# Altium footprint library Connectors-WR-PHD_Pin Header.PcbLib: 232 footprints (part 3 of 15)
Each footprint in its own frame and in the unit in brackets; x right, y up, seen from the top. Pads: shape width x height; smd on the part's side, far side on the other; paste and mask are expansions set on the pad; w line width, h text height; cw(c..) or ccw(c..) is an arc to the next point about the centre after c.
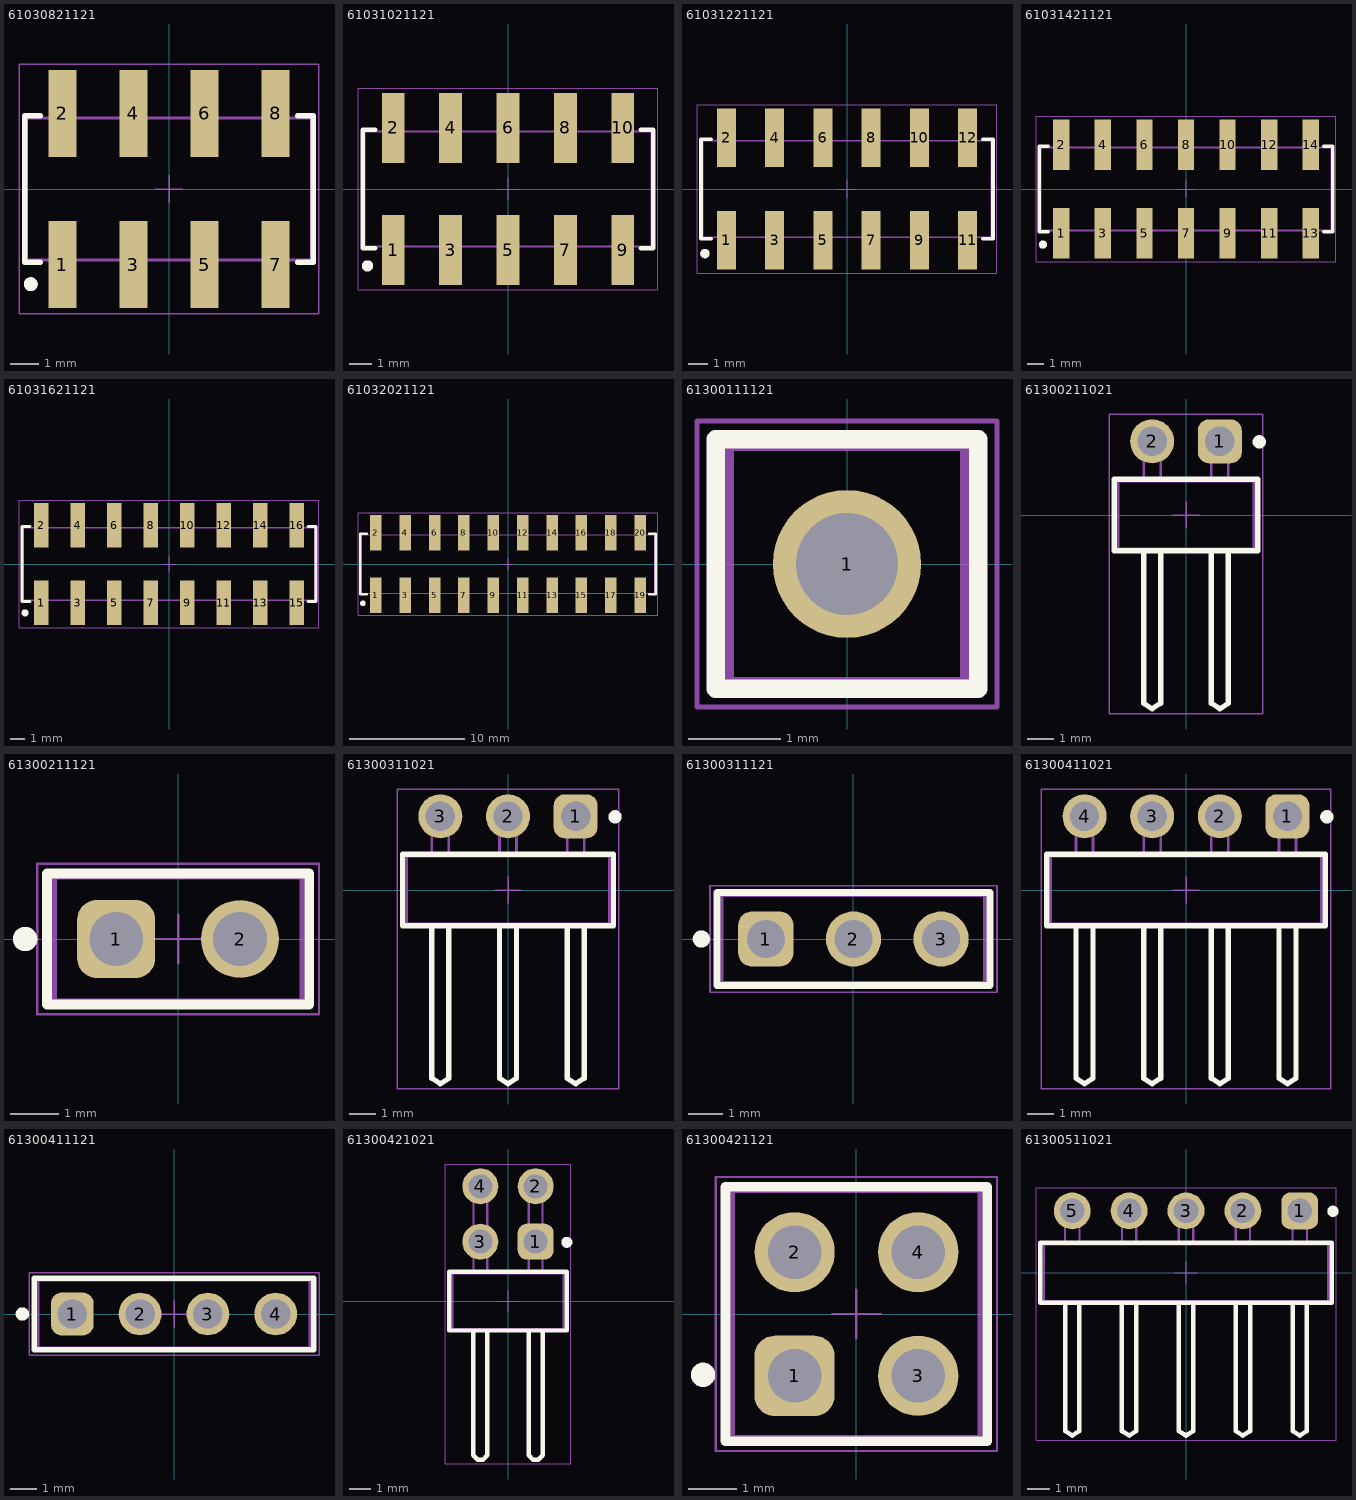
[diagram p2: the footprints below, top view; thin cyan lines are the x and y axes]

## 61030821121 [mm] "Pin Header, pitch 2.54 mm, SMD, Vertical, dual row, 8p"
height 9.6
pads (8):
  rect 1x3.1 smd: 1(-3.81,-2.7) 2(-3.81,2.7) 3(-1.27,-2.7) 4(-1.27,2.7) 5(1.27,-2.7) 6(1.27,2.7) 7(3.81,-2.7) 8(3.81,2.7)
Top Overlay:
  circle w0.25: c-4.94,-3.4 r0.125
  lines w0.2: -4.605,-2.615 -5.155,-2.615 -5.155,2.615 -4.605,2.615 ; 4.605,-2.615 5.155,-2.615 5.155,2.615 4.605,2.615
Top Designator:
  text ".Designator" at -7.498,-0.5 h1.5
Top Component Outline:
  lines w0.1: -4.13,-2.54 -4.13,-3.75 -3.49,-3.75 -3.49,-2.54 ; -4.13,2.54 -4.13,3.75 -3.49,3.75 -3.49,2.54 ; -1.59,-2.54 -1.59,-3.75 -0.95,-3.75 -0.95,-2.54 ; -1.59,2.54 -1.59,3.75 -0.95,3.75 -0.95,2.54 ; 0.95,-2.54 0.95,-3.75 1.59,-3.75 1.59,-2.54 ; 0.95,2.54 0.95,3.75 1.59,3.75 1.59,2.54 ; 3.49,-2.54 3.49,-3.75 4.13,-3.75 4.13,-2.54 ; 3.49,2.54 3.49,3.75 4.13,3.75 4.13,2.54 ; -5.08,-2.54 5.08,-2.54 5.08,2.54 -5.08,2.54 -5.08,-2.54
Top Courtyard:
  lines w0.05: -5.355,-4.45 -5.355,4.45 5.355,4.45 5.355,-4.45 -5.355,-4.45
Top Component Center:
  lines w0.05: -0.5,0 0.5,0 ; 0,-0.5 0,0.5
3D body "61030821121.stp": height 9.62, standoff 0.02, extent -5.08,-3.75 5.08,3.75

## 61031021121 [mm] "Pin Header, pitch 2.54 mm, SMD, Vertical, dual row, 10p"
height 9.6
pads (10):
  rect 1x3.1 smd: 1(-5.08,-2.7) 2(-5.08,2.7) 3(-2.54,-2.7) 4(-2.54,2.7) 5(0,-2.7) 6(0,2.7) 7(2.54,-2.7) 8(2.54,2.7) 9(5.08,-2.7) 10(5.08,2.7)
Top Overlay:
  circle w0.25: c-6.21,-3.4 r0.125
  lines w0.2: -5.875,-2.615 -6.425,-2.615 -6.425,2.615 -5.875,2.615 ; 5.875,-2.615 6.425,-2.615 6.425,2.615 5.875,2.615
Top Designator:
  text ".Designator" at -7.498,-0.5 h1.5
Top Component Outline:
  lines w0.1: -5.4,-2.54 -5.4,-3.75 -4.76,-3.75 -4.76,-2.54 ; -5.4,2.54 -5.4,3.75 -4.76,3.75 -4.76,2.54 ; -2.86,-2.54 -2.86,-3.75 -2.22,-3.75 -2.22,-2.54 ; -2.86,2.54 -2.86,3.75 -2.22,3.75 -2.22,2.54 ; -0.32,-2.54 -0.32,-3.75 0.32,-3.75 0.32,-2.54 ; -0.32,2.54 -0.32,3.75 0.32,3.75 0.32,2.54 ; 2.22,-2.54 2.22,-3.75 2.86,-3.75 2.86,-2.54 ; 2.22,2.54 2.22,3.75 2.86,3.75 2.86,2.54 ; 4.76,-2.54 4.76,-3.75 5.4,-3.75 5.4,-2.54 ; 4.76,2.54 4.76,3.75 5.4,3.75 5.4,2.54 ; -6.35,-2.54 -6.35,2.54 6.35,2.54 6.35,-2.54 -6.35,-2.54
Top Courtyard:
  lines w0.05: -6.625,-4.45 -6.625,4.45 6.625,4.45 6.625,-4.45 -6.625,-4.45
Top Component Center:
  lines w0.05: -0.5,0 0.5,0 ; 0,-0.5 0,0.5
3D body "61031021121.stp": height 9.62, standoff 0.02, extent -6.35,-3.75 6.35,3.75

## 61031221121 [mm] "Pin Header, pitch 2.54 mm, SMD, Vertical, dual row, 12p"
height 9.6
pads (12):
  rect 1x3.1 smd: 1(-6.35,-2.7) 2(-6.35,2.7) 3(-3.81,-2.7) 4(-3.81,2.7) 5(-1.27,-2.7) 6(-1.27,2.7) 7(1.27,-2.7) 8(1.27,2.7) 9(3.81,-2.7) 10(3.81,2.7) 11(6.35,-2.7) 12(6.35,2.7)
Top Overlay:
  circle w0.25: c-7.48,-3.4 r0.125
  lines w0.2: -7.145,-2.615 -7.695,-2.615 -7.695,2.615 -7.145,2.615 ; 7.145,-2.615 7.695,-2.615 7.695,2.615 7.145,2.615
Top Designator:
  text ".Designator" at -7.498,-0.5 h1.5
Top Component Outline:
  lines w0.1: -6.67,-2.54 -6.67,-3.75 -6.03,-3.75 -6.03,-2.54 ; -6.67,2.54 -6.67,3.75 -6.03,3.75 -6.03,2.54 ; -4.13,-2.54 -4.13,-3.75 -3.49,-3.75 -3.49,-2.54 ; -4.13,2.54 -4.13,3.75 -3.49,3.75 -3.49,2.54 ; -1.59,-2.54 -1.59,-3.75 -0.95,-3.75 -0.95,-2.54 ; -1.59,2.54 -1.59,3.75 -0.95,3.75 -0.95,2.54 ; 0.95,-2.54 0.95,-3.75 1.59,-3.75 1.59,-2.54 ; 0.95,2.54 0.95,3.75 1.59,3.75 1.59,2.54 ; 3.49,-2.54 3.49,-3.75 4.13,-3.75 4.13,-2.54 ; 3.49,2.54 3.49,3.75 4.13,3.75 4.13,2.54 ; 6.03,-2.54 6.03,-3.75 6.67,-3.75 6.67,-2.54 ; 6.03,2.54 6.03,3.75 6.67,3.75 6.67,2.54 ; -7.62,-2.54 7.62,-2.54 7.62,2.54 -7.62,2.54 -7.62,-2.54
Top Courtyard:
  lines w0.05: -7.895,-4.45 -7.895,4.45 7.895,4.45 7.895,-4.45 -7.895,-4.45
Top Component Center:
  lines w0.05: -0.5,0 0.5,0 ; 0,-0.5 0,0.5
3D body "61031221121.stp": height 9.62, standoff 0.02, extent -7.62,-3.75 7.62,3.75

## 61031421121 [mm] "Pin Header, pitch 2.54 mm, SMD, Vertical, dual row, 14p"
height 9.6
pads (14):
  rect 1x3.1 smd: 1(-7.62,-2.7) 2(-7.62,2.7) 3(-5.08,-2.7) 4(-5.08,2.7) 5(-2.54,-2.7) 6(-2.54,2.7) 7(0,-2.7) 8(0,2.7) 9(2.54,-2.7) 10(2.54,2.7) 11(5.08,-2.7) 12(5.08,2.7) 13(7.62,-2.7) 14(7.62,2.7)
Top Overlay:
  circle w0.25: c-8.75,-3.4 r0.125
  lines w0.2: -8.415,-2.615 -8.965,-2.615 -8.965,2.615 -8.415,2.615 ; 8.415,-2.615 8.965,-2.615 8.965,2.615 8.415,2.615
Top Designator:
  text ".Designator" at -7.498,-0.5 h1.5
Top Component Outline:
  lines w0.1: -7.94,-2.54 -7.94,-3.75 -7.3,-3.75 -7.3,-2.54 ; -7.94,2.54 -7.94,3.75 -7.3,3.75 -7.3,2.54 ; -5.4,-2.54 -5.4,-3.75 -4.76,-3.75 -4.76,-2.54 ; -5.4,2.54 -5.4,3.75 -4.76,3.75 -4.76,2.54 ; -2.86,-2.54 -2.86,-3.75 -2.22,-3.75 -2.22,-2.54 ; -2.86,2.54 -2.86,3.75 -2.22,3.75 -2.22,2.54 ; -0.32,-2.54 -0.32,-3.75 0.32,-3.75 0.32,-2.54 ; -0.32,2.54 -0.32,3.75 0.32,3.75 0.32,2.54 ; 2.22,-2.54 2.22,-3.75 2.86,-3.75 2.86,-2.54 ; 2.22,2.54 2.22,3.75 2.86,3.75 2.86,2.54 ; 4.76,-2.54 4.76,-3.75 5.4,-3.75 5.4,-2.54 ; 4.76,2.54 4.76,3.75 5.4,3.75 5.4,2.54 ; 7.3,-2.54 7.3,-3.75 7.94,-3.75 7.94,-2.54 ; 7.3,2.54 7.3,3.75 7.94,3.75 7.94,2.54 ; -8.89,-2.54 8.89,-2.54 8.89,2.54 -8.89,2.54 -8.89,-2.54
Top Courtyard:
  lines w0.05: -9.165,-4.45 9.165,-4.45 9.165,4.45 -9.165,4.45 -9.165,-4.45
Top Component Center:
  lines w0.05: -0.5,0 0.5,0 ; 0,-0.5 0,0.5
3D body "61031421121.stp": height 9.62, standoff 0.02, extent -8.89,-3.75 8.89,3.75

## 61031621121 [mm] "Pin Header, pitch 2.54 mm, SMD, Vertical, dual row, 16p"
height 9.6
pads (16):
  rect 1x3.1 smd: 1(-8.89,-2.7) 2(-8.89,2.7) 3(-6.35,-2.7) 4(-6.35,2.7) 5(-3.81,-2.7) 6(-3.81,2.7) 7(-1.27,-2.7) 8(-1.27,2.7) 9(1.27,-2.7) 10(1.27,2.7) 11(3.81,-2.7) 12(3.81,2.7) 13(6.35,-2.7) 14(6.35,2.7) 15(8.89,-2.7) 16(8.89,2.7)
Top Overlay:
  circle w0.25: c-10.02,-3.4 r0.125
  lines w0.2: -9.685,-2.615 -10.235,-2.615 -10.235,2.615 -9.685,2.615 ; 9.685,-2.615 10.235,-2.615 10.235,2.615 9.685,2.615
Top Designator:
  text ".Designator" at -7.498,-0.5 h1.5
Top Component Outline:
  lines w0.1: -9.21,-2.54 -9.21,-3.75 -8.57,-3.75 -8.57,-2.54 ; -9.21,2.54 -9.21,3.75 -8.57,3.75 -8.57,2.54 ; -6.67,-2.54 -6.67,-3.75 -6.03,-3.75 -6.03,-2.54 ; -6.67,2.54 -6.67,3.75 -6.03,3.75 -6.03,2.54 ; -4.13,-2.54 -4.13,-3.75 -3.49,-3.75 -3.49,-2.54 ; -4.13,2.54 -4.13,3.75 -3.49,3.75 -3.49,2.54 ; -1.59,-2.54 -1.59,-3.75 -0.95,-3.75 -0.95,-2.54 ; -1.59,2.54 -1.59,3.75 -0.95,3.75 -0.95,2.54 ; 0.95,-2.54 0.95,-3.75 1.59,-3.75 1.59,-2.54 ; 0.95,2.54 0.95,3.75 1.59,3.75 1.59,2.54 ; 3.49,-2.54 3.49,-3.75 4.13,-3.75 4.13,-2.54 ; 3.49,2.54 3.49,3.75 4.13,3.75 4.13,2.54 ; 6.03,-2.54 6.03,-3.75 6.67,-3.75 6.67,-2.54 ; 6.03,2.54 6.03,3.75 6.67,3.75 6.67,2.54 ; 8.57,-2.54 8.57,-3.75 9.21,-3.75 9.21,-2.54 ; 8.57,2.54 8.57,3.75 9.21,3.75 9.21,2.54 ; -10.16,-2.54 10.16,-2.54 10.16,2.54 -10.16,2.54 -10.16,-2.54
Top Courtyard:
  lines w0.05: -10.435,-4.45 10.435,-4.45 10.435,4.45 -10.435,4.45 -10.435,-4.45
Top Component Center:
  lines w0.05: -0.5,0 0.5,0 ; 0,-0.5 0,0.5
3D body "61031621121.stp": height 9.62, standoff 0.02, extent -10.16,-3.75 10.16,3.75

## 61032021121 [mm] "Pin Header, pitch 2.54 mm, SMD, Vertical, dual row, 20p"
height 9.6
pads (20):
  rect 1x3.1 smd: 1(-11.43,-2.7) 2(-11.43,2.7) 3(-8.89,-2.7) 4(-8.89,2.7) 5(-6.35,-2.7) 6(-6.35,2.7) 7(-3.81,-2.7) 8(-3.81,2.7) 9(-1.27,-2.7) 10(-1.27,2.7) 11(1.27,-2.7) 12(1.27,2.7) 13(3.81,-2.7) 14(3.81,2.7) 15(6.35,-2.7) 16(6.35,2.7) 17(8.89,-2.7) 18(8.89,2.7) 19(11.43,-2.7) 20(11.43,2.7)
Top Overlay:
  circle w0.25: c-12.56,-3.4 r0.125
  lines w0.2: -12.225,-2.615 -12.775,-2.615 -12.775,2.615 -12.225,2.615 ; 12.225,-2.615 12.775,-2.615 12.775,2.615 12.225,2.615
Top Designator:
  text ".Designator" at -7.498,-0.5 h1.5
Top Component Outline:
  lines w0.1: -11.75,-2.54 -11.75,-3.75 -11.11,-3.75 -11.11,-2.54 ; -11.75,2.54 -11.75,3.75 -11.11,3.75 -11.11,2.54 ; -9.21,-2.54 -9.21,-3.75 -8.57,-3.75 -8.57,-2.54 ; -9.21,2.54 -9.21,3.75 -8.57,3.75 -8.57,2.54 ; -6.67,-2.54 -6.67,-3.75 -6.03,-3.75 -6.03,-2.54 ; -6.67,2.54 -6.67,3.75 -6.03,3.75 -6.03,2.54 ; -4.13,-2.54 -4.13,-3.75 -3.49,-3.75 -3.49,-2.54 ; -4.13,2.54 -4.13,3.75 -3.49,3.75 -3.49,2.54 ; -1.59,-2.54 -1.59,-3.75 -0.95,-3.75 -0.95,-2.54 ; -1.59,2.54 -1.59,3.75 -0.95,3.75 -0.95,2.54 ; 0.95,-2.54 0.95,-3.75 1.59,-3.75 1.59,-2.54 ; 0.95,2.54 0.95,3.75 1.59,3.75 1.59,2.54 ; 3.49,-2.54 3.49,-3.75 4.13,-3.75 4.13,-2.54 ; 3.49,2.54 3.49,3.75 4.13,3.75 4.13,2.54 ; 6.03,-2.54 6.03,-3.75 6.67,-3.75 6.67,-2.54 ; 6.03,2.54 6.03,3.75 6.67,3.75 6.67,2.54 ; 8.57,-2.54 8.57,-3.75 9.21,-3.75 9.21,-2.54 ; 8.57,2.54 8.57,3.75 9.21,3.75 9.21,2.54 ; 11.11,-2.54 11.11,-3.75 11.75,-3.75 11.75,-2.54 ; 11.11,2.54 11.11,3.75 11.75,3.75 11.75,2.54 ; -12.7,-2.54 -12.7,2.54 12.7,2.54 12.7,-2.54 -12.7,-2.54
Top Courtyard:
  lines w0.05: -12.975,-4.45 12.975,-4.45 12.975,4.45 -12.975,4.45 -12.975,-4.45
Top Component Center:
  lines w0.05: -0.5,0 0.5,0 ; 0,-0.5 0,0.5
3D body "61032021121.stp": height 9.62, standoff 0.02, extent -12.7,-3.75 12.7,3.75

## 61300111121 [mm] "Pin Header, pitch 2.54 mm, THT, Vertical, single row, 1p"
height 8.54
pads (1):
  round 1.6 hole 1.1: 1(0,0)
Top Overlay:
  lines w0.2: -1.42,-1.345 1.42,-1.345 1.42,1.345 -1.42,1.345 -1.42,-1.345
Top Designator:
  text ".Designator" at -4.998,-0.333 h1
Top Component Outline:
  lines w0.1: -1.27,-1.27 -1.27,1.27 1.27,1.27 1.27,-1.27 -1.27,-1.27
Top Courtyard:
  lines w0.05: -1.62,-1.545 -1.62,1.545 1.62,1.545 1.62,-1.545 -1.62,-1.545
Top Component Center:
  lines w0.05: -0.5,0 0.5,0 ; 0,-0.5 0,0.5
3D body "61300111121.stp": height 8.57, standoff -2.97, extent -1.27,-1.27 1.27,1.27

## 61300211021 [mm] "Pin Header, pitch 2.54 mm, THT, Angled, single row, 2p"
height 2.54
pads (2):
  rrect50% 1.65x1.65 hole 1.1: 1(1.27,2.77)
  round 1.65 hole 1.1: 2(-1.27,2.77)
Top Overlay:
  circle w0.25: c2.75,2.75 r0.125
  lines w0.2: -1.59,-1.345 -1.59,-7.07 -1.27,-7.27 -0.95,-7.07 -0.95,-1.345 ; 0.95,-1.345 0.95,-7.07 1.27,-7.27 1.59,-7.07 1.59,-1.345 ; -2.69,-1.345 2.69,-1.345 2.69,1.345 -2.69,1.345 -2.69,-1.345
Top Designator:
  text ".Designator" at -7.498,-0.5 h1.5
Top Component Outline:
  lines w0.1: -1.59,-1.27 -1.59,-7.07 -1.27,-7.27 -0.95,-7.07 -0.95,-1.27 ; -1.59,1.27 -1.59,3.09 -0.95,3.09 -0.95,1.27 ; 0.95,-1.27 0.95,-7.07 1.27,-7.27 1.59,-7.07 1.59,-1.27 ; 0.95,1.27 0.95,3.09 1.59,3.09 1.59,1.27 ; -2.54,-1.27 -2.54,1.27 2.54,1.27 2.54,-1.27 -2.54,-1.27
Top Courtyard:
  lines w0.05: -2.89,-7.47 2.89,-7.47 2.89,3.795 -2.89,3.795 -2.89,-7.47
Top Component Center:
  lines w0.05: -0.5,0 0.5,0 ; 0,-0.5 0,0.5
3D body "61300211021.stp": height 2.58, standoff -2.96, extent -2.54,-7.27 2.54,3.09

## 61300211121 [mm] "Pin Header, pitch 2.54 mm, THT, Vertical, single row, 2p"
height 8.54
pads (2):
  rrect50% 1.6x1.6 hole 1.1: 1(-1.27,0)
  round 1.6 hole 1.1: 2(1.27,0)
Top Overlay:
  circle w0.25: c-3.14,0 r0.125
  lines w0.2: -2.69,-1.345 2.69,-1.345 2.69,1.345 -2.69,1.345 -2.69,-1.345
Top Designator:
  text ".Designator" at -7.498,-0.5 h1.5
Top Component Outline:
  lines w0.1: -2.54,-1.27 -2.54,1.27 2.54,1.27 2.54,-1.27 -2.54,-1.27
Top Courtyard:
  lines w0.05: -2.89,-1.545 -2.89,1.545 2.89,1.545 2.89,-1.545 -2.89,-1.545
Top Component Center:
  lines w0.05: -0.5,0 0.5,0 ; 0,-0.5 0,0.5
3D body "61300211121.stp": height 8.57, standoff -2.97, extent -2.54,-1.27 2.54,1.27

## 61300311021 [mm] "Pin Header, pitch 2.54 mm, THT, Angled, single row, 3p"
height 2.54
pads (3):
  rrect50% 1.65x1.65 hole 1.1: 1(2.54,2.77)
  round 1.65 hole 1.1: 2(0,2.77) 3(-2.54,2.77)
Top Overlay:
  circle w0.25: c4.02,2.75 r0.125
  lines w0.2: -2.86,-1.345 -2.86,-7.07 -2.54,-7.27 -2.22,-7.07 -2.22,-1.345 ; -0.32,-1.345 -0.32,-7.07 0,-7.27 0.32,-7.07 0.32,-1.345 ; 2.22,-1.345 2.22,-7.07 2.54,-7.27 2.86,-7.07 2.86,-1.345 ; -3.96,-1.345 3.96,-1.345 3.96,1.345 -3.96,1.345 -3.96,-1.345
Top Designator:
  text ".Designator" at -7.498,-0.5 h1.5
Top Component Outline:
  lines w0.1: -2.86,-1.27 -2.86,-7.07 -2.54,-7.27 -2.22,-7.07 -2.22,-1.27 ; -2.86,1.27 -2.86,3.09 -2.22,3.09 -2.22,1.27 ; -0.32,-1.27 -0.32,-7.07 0,-7.27 0.32,-7.07 0.32,-1.27 ; -0.32,1.27 -0.32,3.09 0.32,3.09 0.32,1.27 ; 2.22,-1.27 2.22,-7.07 2.54,-7.27 2.86,-7.07 2.86,-1.27 ; 2.22,1.27 2.22,3.09 2.86,3.09 2.86,1.27 ; -3.81,-1.27 -3.81,1.27 3.81,1.27 3.81,-1.27 -3.81,-1.27
Top Courtyard:
  lines w0.05: -4.16,-7.47 4.16,-7.47 4.16,3.795 -4.16,3.795 -4.16,-7.47
Top Component Center:
  lines w0.05: -0.5,0 0.5,0 ; 0,-0.5 0,0.5
3D body "61300311021.stp": height 2.58, standoff -2.96, extent -3.81,-7.27 3.81,3.09

## 61300311121 [mm] "Pin Header, pitch 2.54 mm, THT, Vertical, single row, 3p"
height 8.54
pads (3):
  rrect50% 1.6x1.6 hole 1.1: 1(-2.54,0)
  round 1.6 hole 1.1: 2(0,0) 3(2.54,0)
Top Overlay:
  circle w0.25: c-4.41,0 r0.125
  lines w0.2: -3.96,-1.345 3.96,-1.345 3.96,1.345 -3.96,1.345 -3.96,-1.345
Top Designator:
  text ".Designator" at -7.498,-0.5 h1.5
Top Component Outline:
  lines w0.1: -3.81,-1.27 -3.81,1.27 3.81,1.27 3.81,-1.27 -3.81,-1.27
Top Courtyard:
  lines w0.05: -4.16,-1.545 -4.16,1.545 4.16,1.545 4.16,-1.545 -4.16,-1.545
Top Component Center:
  lines w0.05: -0.5,0 0.5,0 ; 0,-0.5 0,0.5
3D body "61300311121.stp": height 8.57, standoff -2.97, extent -3.81,-1.27 3.81,1.27

## 61300411021 [mm] "Pin Header, pitch 2.54 mm, THT, Angled, single row, 4p"
height 2.54
pads (4):
  rrect50% 1.65x1.65 hole 1.1: 1(3.81,2.77)
  round 1.65 hole 1.1: 2(1.27,2.77) 3(-1.27,2.77) 4(-3.81,2.77)
Top Overlay:
  circle w0.25: c5.29,2.75 r0.125
  lines w0.2: -4.13,-1.345 -4.13,-7.07 -3.81,-7.27 -3.49,-7.07 -3.49,-1.345 ; -1.59,-1.345 -1.59,-7.07 -1.27,-7.27 -0.95,-7.07 -0.95,-1.345 ; 0.95,-1.345 0.95,-7.07 1.27,-7.27 1.59,-7.07 1.59,-1.345 ; 3.49,-1.345 3.49,-7.07 3.81,-7.27 4.13,-7.07 4.13,-1.345 ; -5.23,-1.345 5.23,-1.345 5.23,1.345 -5.23,1.345 -5.23,-1.345
Top Designator:
  text ".Designator" at -7.498,-0.5 h1.5
Top Component Outline:
  lines w0.1: -4.13,-1.27 -4.13,-7.07 -3.81,-7.27 -3.49,-7.07 -3.49,-1.27 ; -4.13,1.27 -4.13,3.09 -3.49,3.09 -3.49,1.27 ; -1.59,-1.27 -1.59,-7.07 -1.27,-7.27 -0.95,-7.07 -0.95,-1.27 ; -1.59,1.27 -1.59,3.09 -0.95,3.09 -0.95,1.27 ; 0.95,-1.27 0.95,-7.07 1.27,-7.27 1.59,-7.07 1.59,-1.27 ; 0.95,1.27 0.95,3.09 1.59,3.09 1.59,1.27 ; 3.49,-1.27 3.49,-7.07 3.81,-7.27 4.13,-7.07 4.13,-1.27 ; 3.49,1.27 3.49,3.09 4.13,3.09 4.13,1.27 ; -5.08,-1.27 -5.08,1.27 5.08,1.27 5.08,-1.27 -5.08,-1.27
Top Courtyard:
  lines w0.05: -5.43,-7.47 5.43,-7.47 5.43,3.795 -5.43,3.795 -5.43,-7.47
Top Component Center:
  lines w0.05: -0.5,0 0.5,0 ; 0,-0.5 0,0.5
3D body "61300411021.stp": height 2.58, standoff -2.96, extent -5.08,-7.27 5.08,3.09

## 61300411121 [mm] "Pin Header, pitch 2.54 mm, THT, Vertical, single row, 4p"
height 8.54
pads (4):
  rrect50% 1.6x1.6 hole 1.1: 1(-3.81,0)
  round 1.6 hole 1.1: 2(-1.27,0) 3(1.27,0) 4(3.81,0)
Top Overlay:
  circle w0.25: c-5.68,0 r0.125
  lines w0.2: -5.23,-1.345 -5.23,1.345 5.23,1.345 5.23,-1.345 -5.23,-1.345
Top Designator:
  text ".Designator" at -7.498,-0.5 h1.5
Top Component Outline:
  lines w0.1: -5.08,-1.27 5.08,-1.27 5.08,1.27 -5.08,1.27 -5.08,-1.27
Top Courtyard:
  lines w0.05: -5.43,-1.545 5.43,-1.545 5.43,1.545 -5.43,1.545 -5.43,-1.545
Top Component Center:
  lines w0.05: -0.5,0 0.5,0 ; 0,-0.5 0,0.5
3D body "61300411121.stp": height 8.57, standoff -2.97, extent -5.08,-1.27 5.08,1.27

## 61300421021 [mm] "Pin Header, pitch 2.54 mm, THT, Angled, dual row, 4p"
height 5.08
pads (4):
  rrect50% 1.65x1.65 hole 1.1: 1(1.27,2.73)
  round 1.65 hole 1.1: 2(1.27,5.27) 3(-1.27,2.73) 4(-1.27,5.27)
Top Overlay:
  circle w0.25: c2.7,2.7 r0.125
  lines w0.2: -1.59,-1.345 -1.59,-7.07 -1.39,-7.27 -1.15,-7.27 -0.95,-7.07 -0.95,-1.345 ; 0.95,-1.345 0.95,-7.07 1.15,-7.27 1.39,-7.27 1.59,-7.07 1.59,-1.345 ; -2.69,-1.345 -2.69,1.345 2.69,1.345 2.69,-1.345 -2.69,-1.345
Top Designator:
  text ".Designator" at -7.498,-0.5 h1.5
Top Component Outline:
  lines w0.1: -1.59,-1.27 -1.59,-7.07 -1.39,-7.27 -1.15,-7.27 -0.95,-7.07 -0.95,-1.27 ; -1.59,1.27 -1.59,5.63 -0.95,5.63 -0.95,1.27 ; -1.59,3.09 -0.95,3.09 ; 0.95,-1.27 0.95,-7.07 1.15,-7.27 1.39,-7.27 1.59,-7.07 1.59,-1.27 ; 0.95,1.27 0.95,5.63 1.59,5.63 1.59,1.27 ; 0.95,3.09 1.59,3.09 ; -2.54,-1.27 -2.54,1.27 2.54,1.27 2.54,-1.27 -2.54,-1.27
Top Courtyard:
  lines w0.05: -2.89,-7.47 -2.89,6.295 2.89,6.295 2.89,-7.47 -2.89,-7.47
Top Component Center:
  lines w0.05: -0.5,0 0.5,0 ; 0,-0.5 0,0.5
3D body "61300421021.stp": height 5.12, standoff -2.96, extent -2.54,-7.27 2.54,5.63

## 61300421121 [mm] "Pin Header, pitch 2.54 mm, THT, Vertical, dual row, 4p"
height 8.54
pads (4):
  rrect50% 1.65x1.65 hole 1.1: 1(-1.27,-1.27)
  round 1.65 hole 1.1: 2(-1.27,1.27) 3(1.27,-1.27) 4(1.27,1.27)
Top Overlay:
  circle w0.25: c-3.15,-1.25 r0.125
  lines w0.2: -2.69,-2.615 -2.69,2.615 2.69,2.615 2.69,-2.615 -2.69,-2.615
Top Designator:
  text ".Designator" at -7.498,-0.5 h1.5
Top Component Outline:
  lines w0.1: -2.54,-2.54 -2.54,2.54 2.54,2.54 2.54,-2.54 -2.54,-2.54
Top Courtyard:
  lines w0.05: -2.89,-2.815 2.89,-2.815 2.89,2.815 -2.89,2.815 -2.89,-2.815
Top Component Center:
  lines w0.05: -0.5,0 0.5,0 ; 0,-0.5 0,0.5
3D body "61300421121.stp": height 8.59, standoff -2.95, extent -2.54,-2.54 2.54,2.54

## 61300511021 [mm] "Pin Header, pitch 2.54 mm, THT, Angled, single row, 5p"
height 2.54
pads (5):
  rrect50% 1.65x1.65 hole 1.1: 1(5.08,2.77)
  round 1.65 hole 1.1: 2(2.54,2.77) 3(0,2.77) 4(-2.54,2.77) 5(-5.08,2.77)
Top Overlay:
  circle w0.25: c6.56,2.75 r0.125
  lines w0.2: -5.4,-1.345 -5.4,-7.07 -5.08,-7.27 -4.76,-7.07 -4.76,-1.345 ; -2.86,-1.345 -2.86,-7.07 -2.54,-7.27 -2.22,-7.07 -2.22,-1.345 ; -0.32,-1.345 -0.32,-7.07 0,-7.27 0.32,-7.07 0.32,-1.345 ; 2.22,-1.345 2.22,-7.07 2.54,-7.27 2.86,-7.07 2.86,-1.345 ; 4.76,-1.345 4.76,-7.07 5.08,-7.27 5.4,-7.07 5.4,-1.345 ; -6.5,-1.345 6.5,-1.345 6.5,1.345 -6.5,1.345 -6.5,-1.345
Top Designator:
  text ".Designator" at -7.498,-0.5 h1.5
Top Component Outline:
  lines w0.1: -5.4,-1.27 -5.4,-7.07 -5.08,-7.27 -4.76,-7.07 -4.76,-1.27 ; -5.4,1.27 -5.4,3.09 -4.76,3.09 -4.76,1.27 ; -2.86,-1.27 -2.86,-7.07 -2.54,-7.27 -2.22,-7.07 -2.22,-1.27 ; -2.86,1.27 -2.86,3.09 -2.22,3.09 -2.22,1.27 ; -0.32,-1.27 -0.32,-7.07 0,-7.27 0.32,-7.07 0.32,-1.27 ; -0.32,1.27 -0.32,3.09 0.32,3.09 0.32,1.27 ; 2.22,-1.27 2.22,-7.07 2.54,-7.27 2.86,-7.07 2.86,-1.27 ; 2.22,1.27 2.22,3.09 2.86,3.09 2.86,1.27 ; 4.76,-1.27 4.76,-7.07 5.08,-7.27 5.4,-7.07 5.4,-1.27 ; 4.76,1.27 4.76,3.09 5.4,3.09 5.4,1.27 ; -6.35,-1.27 -6.35,1.27 6.35,1.27 6.35,-1.27 -6.35,-1.27
Top Courtyard:
  lines w0.05: -6.7,-7.47 6.7,-7.47 6.7,3.795 -6.7,3.795 -6.7,-7.47
Top Component Center:
  lines w0.05: -0.5,0 0.5,0 ; 0,-0.5 0,0.5
3D body "61300511021.stp": height 2.58, standoff -2.96, extent -6.35,-7.27 6.35,3.09